# Altium footprint library Connector_USB.PcbLib: 17 footprints (part 1 of 2)
Each footprint in its own frame and in the unit in brackets; x right, y up, seen from the top. Pads: shape width x height; smd on the part's side, far side on the other; paste and mask are expansions set on the pad; w line width, h text height; cw(c..) or ccw(c..) is an arc to the next point about the centre after c.
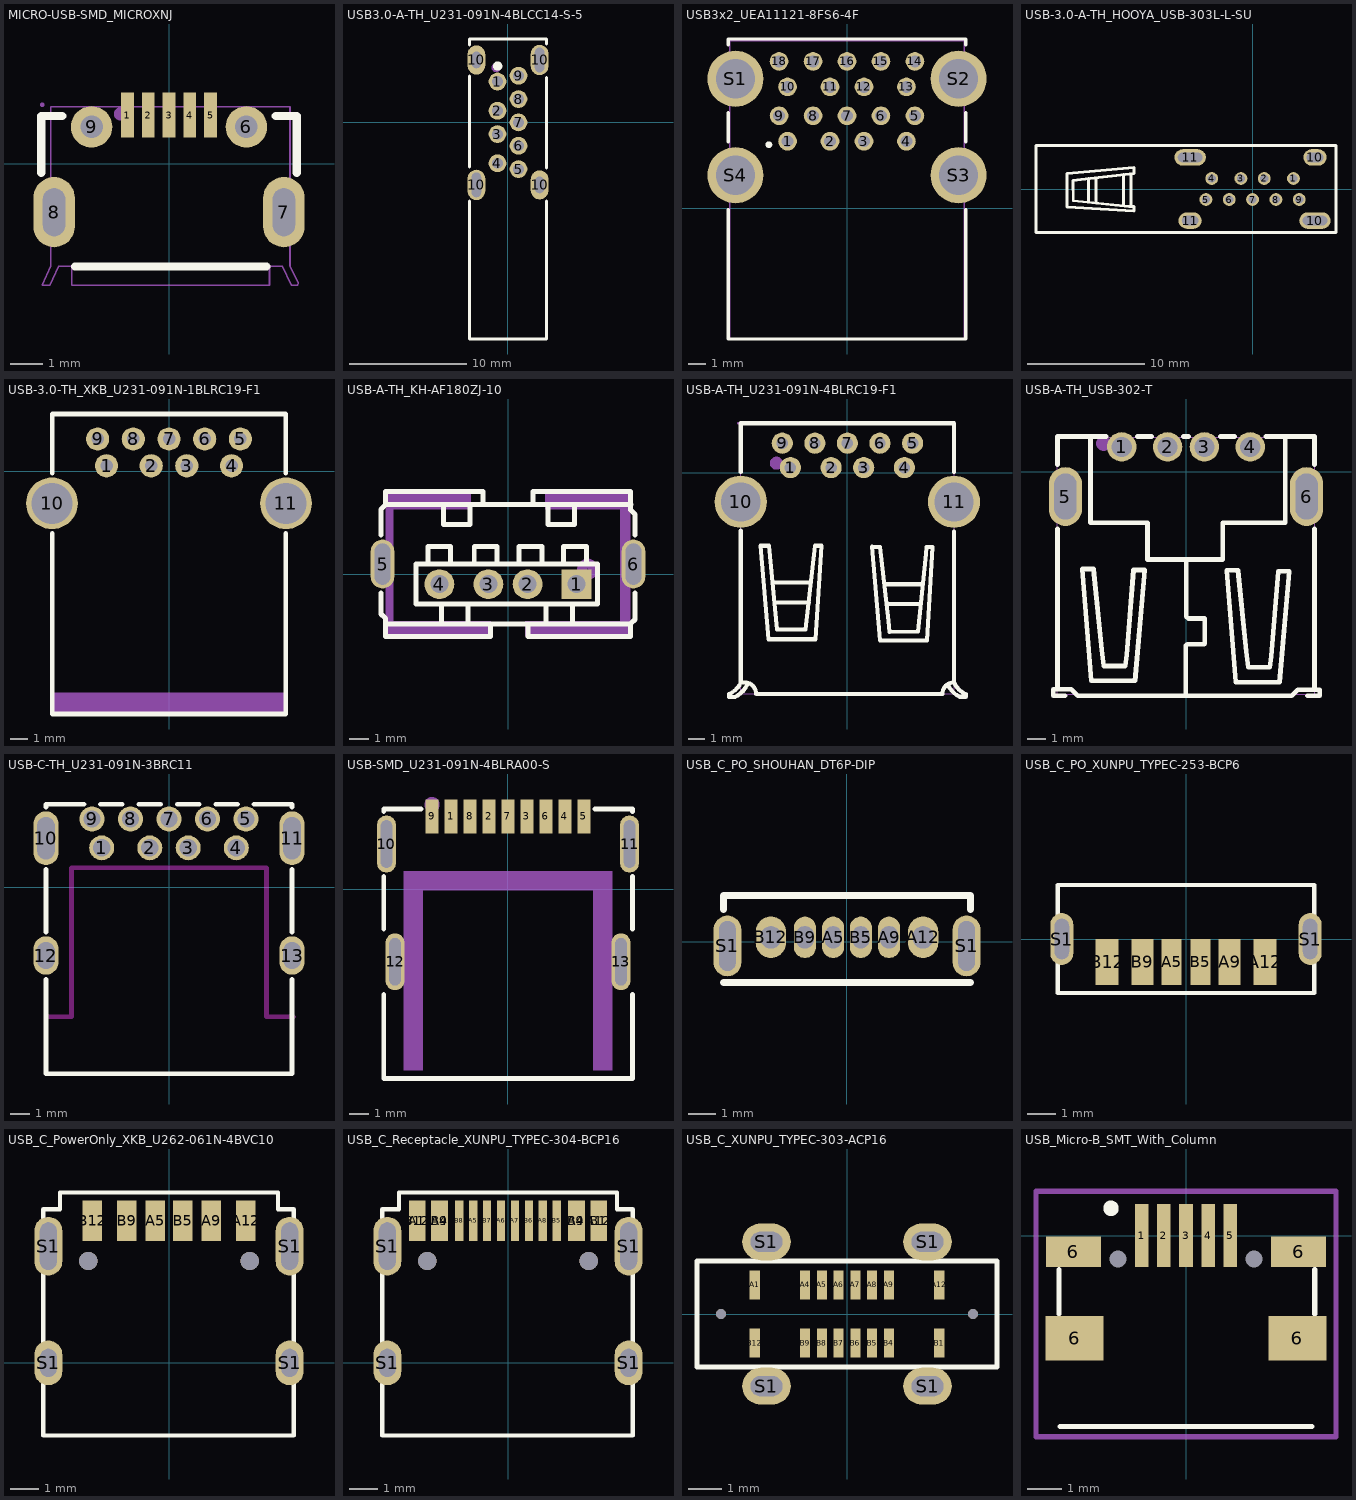
[diagram p0: the footprints below, top view; thin cyan lines are the x and y axes]

## MICRO-USB-SMD_MICROXNJ [mil]
pads (9):
  rect 15.7x55.1 smd mask+2: 1(-51.2,59.9) 2(-25.6,59.9) 3(0,59.9) 4(25.6,59.9) 5(51.2,59.9)
  round 51.2 hole 27.6 mask+2: 6(95.5,45.2) 9(-95.5,45.2)
  oval 51.2x86.6 hole 27.6 slot 59.1 at 90 deg mask+2: 7(141.7,-59.9) 8(-141.7,-59.9)
Top Overlay:
  lines w10: -157.5,-11.3 -157.5,58.7 -131.7,58.7 ; -116.14,-126.97 120.08,-126.97 ; 131.7,58.7 157.5,58.7 157.5,-11.3
Top Paste:
  circle w25.6: c-95.5,45.2 r12.8
  circle w25.6: c95.5,45.2 r12.8
  region: 116.1,-42.2 116.1,-38.83 117.84,-32.32 121.21,-26.48 125.98,-21.71 131.82,-18.34 138.33,-16.6 145.07,-16.6 151.58,-18.34 157.42,-21.71 162.19,-26.48 165.56,-32.32 167.3,-38.83 167.3,-42.2 167.3,-77.6 167.3,-80.97 165.56,-87.48 162.19,-93.32 157.42,-98.09 151.58,-101.46 145.07,-103.2 138.33,-103.2 131.82,-101.46 125.98,-98.09 121.21,-93.32 117.84,-87.48 116.1,-80.97 116.1,-77.6
  region: -167.3,-42.2 -167.3,-38.83 -165.56,-32.32 -162.19,-26.48 -157.42,-21.71 -151.58,-18.34 -145.07,-16.6 -138.33,-16.6 -131.82,-18.34 -125.98,-21.71 -121.22,-26.48 -117.84,-32.32 -116.1,-38.83 -116.1,-42.2 -116.1,-77.6 -116.1,-80.97 -117.84,-87.48 -121.22,-93.32 -125.98,-98.09 -131.82,-101.46 -138.33,-103.2 -145.07,-103.2 -151.58,-101.46 -157.42,-98.09 -162.19,-93.32 -165.56,-87.48 -167.3,-80.97 -167.3,-77.6
  region: 59.1,87.5 43.3,87.5 43.3,40.2 43.3,32.3 59.1,32.3 59.1,41.7
  region: 33.5,87.5 17.7,87.5 17.7,40.2 17.7,32.3 33.5,32.3 33.5,41.7
  region: 7.9,87.5 -7.9,87.5 -7.9,40.2 -7.9,32.3 7.9,32.3 7.9,41.7
  region: -17.7,87.5 -33.5,87.5 -33.5,40.2 -33.5,32.3 -17.7,32.3 -17.7,41.7
  region: -43.3,87.5 -59.1,87.5 -59.1,40.2 -59.1,32.3 -43.3,32.3 -43.3,41.7
Mechanical 6:
  circle w7.9: c-60.2,61.2 r3.9
Mechanical 15:
  region: -153.9,72.5 -153.9,73.49 -155.31,74.9 -157.29,74.9 -158.7,73.49 -158.7,72.5 -158.7,71.51 -157.29,70.1 -155.31,70.1 -153.9,71.51 -153.9,72.5
  region: -147.6,-42 -135.8,-42 -135.8,-77.8 -147.6,-77.8
  region: 135.8,-42 147.6,-42 147.6,-77.8 135.8,-77.8
  region: -105.3,41.3 -105.3,49.2 -85.6,49.2 -85.6,41.3
  region: 85.6,41.3 85.6,49.2 105.3,49.2 105.3,41.3
  region: -56.1,33.1 -56.1,72.5 -46.3,72.5 -46.3,33.1
  region: -30.5,33.1 -30.5,72.5 -20.7,72.5 -20.7,33.1
  region: -4.9,33.1 -4.9,72.5 4.9,72.5 4.9,33.1
  region: 20.7,33.1 20.7,72.5 30.5,72.5 30.5,33.1
  region: 46.3,33.1 46.3,72.5 56.1,72.5 56.1,33.1
  lines w2: -156.3,-149.9 -147.2,-150.2 -135.8,-126.6 -120.1,-126.6 -120.1,-149.9 -119.3,-149.9 124,-150.2 124,-126.6 139.4,-126.6 150.8,-149.9 158.7,-149.9 159.4,-147.5 149.2,-125.8 149.2,70.2 -145.7,70.2 -145.7,69.8 -145.7,-126.2 -156.3,-149.9
3D body "3D_PCB1_2022-04-16.step": height 108.29, standoff -39.39, extent -155.73,-150.14 159.33,70.34

## USB3.0-A-TH_U231-091N-4BLCC14-S-5 [mil]
pads (13):
  round 60 hole 36: 1(-35.43,137.79) 2(-35.43,39.37) 3(-35.43,-39.37) 4(-35.43,-137.79) 5(35.44,-157.48) 6(35.44,-78.74) 7(35.44,0) 8(35.44,78.74) 9(35.44,157.48)
  oval 60x102.36 hole 31.5 slot 82.68 at 90 deg: 10(-106.69,-210.63) 10(106.7,210.63)
  oval 60x98.42 hole 31.5 slot 55.12 at 90 deg: 10(-106.69,210.63) 10(106.7,-210.63)
Top Overlay:
  circle w15.75: c-34.99,190 r7.87
  lines w10: -130,-150 -130,156.04 ; -129.91,-265.54 -129.91,-729.96 129.87,-729.96 130.21,-730.31 130.21,-265.51 129.93,-265.23 ; -129.91,261.77 -129.91,281.22 -129.81,281.33 129.93,281.33 129.93,264.79 ; 129.93,-154.4 129.93,151.65
Mechanical 15:
  circle w15.75: c-39.99,185 r7.87
3D body "USB1.stp": height 545.28, standoff -137.8, extent -128.35,-733.35 128.35,284.37

## USB3x2_UEA11121-8FS6-4F [mm]
pads (22):
  round 1.1 hole 0.7: 1(-3.5,3.93) 2(-1,3.93) 3(1,3.93) 4(3.5,3.93) 5(4,5.43) 6(2,5.43) 7(0,5.43) 8(-2,5.43) 9(-4,5.43) 10(-3.5,7.13) 11(-1,7.13) 12(1,7.13) 13(3.5,7.13) 14(4,8.63) 15(2,8.63) 16(0,8.63) 17(-2,8.63) 18(-4,8.63)
  round 3.3 hole 2.3: S1(-6.57,7.61) S2(6.57,7.61) S3(6.57,1.93) S4(-6.57,1.93)
Top Overlay:
  circle w0.2: c-4.6,3.73 r0.1
  lines w0.2: -7,-0.1 -7,-7.71 7,-7.71 7,-0.1 ; -7,3.9 -7,5.6 ; -7,9.6 -7,9.95 7,9.95 7,9.6 ; 7,3.9 7,5.6
Mechanical 13:
  lines w0.1: -6.9,-7.71 6.9,-7.71 6.9,9.85 -6.9,9.85 -6.9,-7.71
3D body: height 1.29, standoff -14.39, extent -8.255,10.795 -8.255,10.795
3D body "8129645.stp": height 16.2, standoff -3.2, extent -7.81,-7.529 7.86,9.931

## USB-3.0-A-TH_HOOYA_USB-303L-L-SU [mm]
pads (13):
  round 1.1 hole 0.7: 1(3.5,0.9) 2(1,0.9) 3(-1,0.9) 4(-3.5,0.9) 5(-4,-0.9) 6(-2,-0.9) 7(0,-0.9) 8(2,-0.9) 9(4,-0.9)
  oval 2x1.4 hole 0.8 slot 1.4 at 0 deg: 10(5.35,2.71) 11(-5.35,-2.71)
  oval 2.7x1.4 hole 0.8 slot 2.1 at 0 deg: 10(5.35,-2.71) 11(-5.35,2.71)
Top Overlay:
  lines w0.254: -18.558,3.725 7.15,3.725 7.15,-3.725 -18.55,-3.725 -18.55,3.726 ; -14.042,-1.134 -14.042,0.891 ; -13.413,-1.203 -13.413,0.961 ; -11.047,-1.429 -11.047,1.227 ; -10.435,-1.482 -10.435,1.296 ; -15.901,-1.542 -10.158,-1.892 -10.158,-1.512 -10.588,-1.482 -15.367,-1.008 -15.377,0.742 -14.699,0.817 -10.159,1.327 -10.155,1.836 -15.89,1.341 -15.901,-1.542

## USB-3.0-TH_XKB_U231-091N-1BLRC19-F1 [mm]
pads (11):
  round 1.3 hole 0.7: 1(-3.5,0.3) 2(-1,0.3) 3(1,0.3) 4(3.5,0.3) 5(4,1.8) 6(2,1.8) 7(0,1.8) 8(-2,1.8) 9(-4,1.8)
  round 2.9 hole 2.3: 10(-6.55,-1.8) 11(6.55,-1.8)
Top Overlay:
  lines w0.254: -6.55,-3.481 -6.55,-13.6 6.55,-13.6 6.55,-3.481 ; -6.55,-0.119 -6.55,3.2 6.55,3.2 6.55,-0.119
Mechanical 15:
  region: -6.6,-12.4 6.6,-12.4 6.6,-13.6 -6.6,-13.6

## USB-A-TH_KH-AF180ZJ-10 [mil]
pads (6):
  rect 60x60 hole 36: 1(137.79,-20.27)
  round 60 hole 36: 2(39.37,-20.27) 3(-39.37,-20.27) 4(-137.79,-20.27)
  oval 47.24x98.42 hole 31.5 slot 82.68 at 90 deg: 5(-252.01,20.23) 6(252.01,20.23)
Top Overlay:
  lines w10: -255,-37.9 -255,-80 -246.11,-88.89 -246.11,-100 ; -255,78.45 -255,120 -255,130 -245,140 ; -160.79,20.28 -160.79,55.28 -115,55.28 -115,20.28 ; -133.69,-59.72 -133.69,-99.72 -80,-99.72 -80,-59.72 ; -130,140 -130,100 -76.31,100 -76.31,140 ; -67.79,20.28 -67.79,55.28 -22,55.28 -22,20.28 ; 22.21,20.28 22.21,55.28 68,55.28 68,20.28 ; 40,-110 40,-125.78 246.06,-125.78 246.06,-99.95 ; 39.99,-109.95 39.99,-99.95 ; 49.99,165.04 49.99,140.04 -50.01,140.04 -50.01,166.34 -246.11,166.34 -246.11,141.11 -245,140 ; 50,166.34 246.06,166.34 246.06,140 246.06,128.94 255,120 255,78.45 ; 76.31,-59.72 76.31,-99.72 130,-99.72 130,-59.72 ; 80,140 80,100 133.69,100 133.69,140 ; 111.71,20.28 111.71,55.28 157.5,55.28 157.5,20.28 ; 247.13,140 -245,140 ; 255,-37.9 255,-85 255,-91.02 246.06,-99.95 ; -246.11,-100 -246.11,-124.95 -35.01,-124.95 -35.01,-99.95 ; -246.11,-100 -246.06,-99.95 -35.01,-99.95 ; -35.01,-99.95 39.99,-99.95 ; 39.99,-99.95 246.06,-99.95 ; -185,-59.72 180,-59.72 180,20.28 -185,20.28 -185,-59.72
Mechanical 15:
  circle w19.68: c160,9.85 r11.18
  region: -75,130 -75,165 -245,165 -245,130
  region: 75,130 75,165 245,165 245,130
  region: -245,-125 -245,-95 -35,-95 -35,-125
  region: 35,-125 35,-95 245,-95 245,-125
  region: 245,-95 245,130 225,130 225,-95
  region: -245,130 -245,-95 -230,-95 -230,130
3D body "USB1.stp": height 393.82, standoff -118.13, extent -257.88,-126.38 257.88,165.75

## USB-A-TH_U231-091N-4BLRC19-F1 [mil]
pads (11):
  round 51.2 hole 27.6 mask+2: 1(-137.8,11.8) 2(-39.4,11.8) 3(39.4,11.8) 4(137.8,11.8) 5(157.5,70.9) 6(78.7,70.9) 7(0,70.9) 8(-78.7,70.9) 9(-157.5,70.9)
  round 126 hole 94.5 mask+2: 10(-257.9,-70.9) 11(257.9,-70.9)
Top Overlay:
  lines w10: -271.7,-542.8 -286,-542.8 -286,-535.9 ccw(c-308.43,-485.33) -257.87,-507.77 ; -271.65,-542.82 ccw(c-299.19,-486.69) -242.86,-513.81 ; -257.9,-507.8 -257.9,-140.7 ; -257.9,-507.5 -248.7,-507.5 cw(c-248.69,-535.6) -220.58,-535.6 229.7,-535.6 cw(c257.8,-535.6) 257.8,-507.49 257.8,-143 ; -257.9,1.2 -257.9,119.1 257.9,119.1 257.9,1.2 ; -257.87,-79.69 cw(c-251.97,-79.69) -251.97,-73.79 ; -179.1,-266.3 -90.1,-266.3 ; -173.6,-314 -93.6,-314 ; 91.8,-270.2 180.8,-270.2 ; 97.4,-317.9 177.3,-317.9 ; 242.86,-513.29 ccw(c299.19,-486.16) 271.65,-542.29 ; 257.87,-507.25 ccw(c304.11,-489.12) 285.98,-535.36 ; 271.7,-542.3 286,-542.3 286,-535.4 ; -210,-177.2 -191,-403.2 -77,-403.2 -63,-177.2 -78,-177.2 -101.2,-379.3 -170.1,-379.3 -190,-177.2 -210,-177.2 ; 59.1,-179.7 78.6,-405.5 192.1,-406 205.9,-179.9 190.9,-179.9 189.7,-196.8 171.1,-384.9 102.2,-385.3 99.2,-358.6 79.1,-179.9 59.1,-179.7
Mechanical 6:
  circle w15.7: c-171.6,22.5 r7.9
Mechanical 15:
  region: -261.4,118.8 -261.4,119.79 -262.81,121.2 -264.79,121.2 -266.2,119.79 -266.2,118.8 -266.2,117.81 -264.79,116.4 -262.81,116.4 -261.4,117.81 -261.4,118.8
  region: -165.3,66.9 -165.3,74.8 -149.6,74.8 -149.6,66.9
  region: -86.6,66.9 -86.6,74.8 -70.9,74.8 -70.9,66.9
  region: -7.9,66.9 -7.9,74.8 7.9,74.8 7.9,66.9
  region: 70.9,66.9 70.9,74.8 86.6,74.8 86.6,66.9
  region: 149.6,66.9 149.6,74.8 165.4,74.8 165.4,66.9
  region: 129.9,7.9 129.9,15.8 145.7,15.8 145.7,7.9
  region: 31.5,7.9 31.5,15.8 47.2,15.8 47.2,7.9
  region: -47.2,7.9 -47.2,15.8 -31.5,15.8 -31.5,7.9
  region: -145.7,7.9 -145.7,15.8 -129.9,15.8 -129.9,7.9
  region: -263.8,-37.4 -252,-37.4 -252,-104.3 -263.8,-104.3
  region: 252,-37.4 263.8,-37.4 263.8,-104.3 252,-104.3
  lines w2: -257.9,-534.8 -257.9,118.8 257.9,118.8 257.9,-534.8 -257.9,-534.8
3D body "3D_PCB1_2022-04-16.stp": height 282.55, standoff -118.11, extent -311.16,-533.91 311.16,127.51

## USB-A-TH_USB-302-T [mil]
pads (6):
  round 63 hole 43.3 mask+2: 1(-137.8,53.3) 2(-39.4,53.3) 3(39.4,53.3) 4(137.8,53.3)
  oval 70.9x126 hole 47.2 slot 98.4 at 90 deg mask+2: 5(-258.7,-53.3) 6(258.7,-53.3)
Top Overlay:
  lines w10: -284.5,-480.7 -259.5,-480.7 ; -284.4,-480.7 -284.5,-466.7 -246.5,-466.7 -232.5,-480.7 226.5,-480.7 239.5,-467.7 286.5,-467.7 286.5,-480.7 260.5,-480.7 ; -275.6,-459.8 -275.6,-122.1 ; -275.6,15.4 -275.6,75.6 -171.7,75.6 ; -204.7,75.6 -204.7,-109.4 -82.7,-109.4 -82.7,-188.2 78.7,-188.2 78.7,-109.4 212.6,-109.4 212.6,75.6 ; -103.9,75.6 -73.3,75.6 ; -5.4,75.6 5.4,75.6 ; -0.5,-480.7 -0.5,-372.7 2.5,-369.7 39.5,-369.7 40.5,-368.7 40.5,-314.7 4.5,-314.7 0.5,-310.7 0.5,-205.7 ; 0.5,-212.9 0.5,-188.2 ; 73.3,75.6 103.9,75.6 ; 171.7,75.6 275.6,75.6 275.6,15.4 ; 275.6,-467.7 275.6,-122.1 ; -222.5,-208.7 -203.5,-448.7 -109.5,-448.7 -88.5,-210.7 -112.5,-210.7 -127.2,-393.3 -130.1,-416.7 -176.5,-416.7 -180.5,-382.7 -198.5,-208.7 -222.5,-208.7 ; 87.5,-211.7 106.5,-451.7 200.5,-451.7 221.5,-213.7 197.5,-213.7 182.8,-396.3 179.9,-419.7 133.5,-419.7 129.5,-385.7 111.5,-211.7 87.5,-211.7
Mechanical 6:
  circle w15.7: c-177,60.5 r7.9
Mechanical 15:
  region: -274.7,74 -274.7,74.99 -276.11,76.4 -278.09,76.4 -279.5,74.99 -279.5,74 -279.5,73.01 -278.09,71.6 -276.11,71.6 -274.7,73.01 -274.7,74
  region: -151.6,49.4 -151.6,57.3 -124,57.3 -124,49.4
  region: -53.1,49.4 -53.1,57.3 -25.6,57.3 -25.6,49.4
  region: 25.6,49.4 25.6,57.3 53.2,57.3 53.2,49.4
  region: 124,49.4 124,57.3 151.6,57.3 151.6,49.4
  region: -250.8,-27.8 -250.8,-78.9 -266.5,-78.9 -266.5,-27.8
  region: 250.8,-78.9 250.8,-27.8 266.5,-27.8 266.5,-78.9
  lines w2: -275.6,-477.1 275.6,-477.1 275.6,74 -275.6,74 -275.6,-477.1
3D body "3D_PCB1_2022-04-15.stp": height 267.91, standoff -169.3, extent -288.56,-489.5 289.56,73.69

## USB-C-TH_U231-091N-3BRC11 [mm]
pads (13):
  round 1.3 hole 0.9: 1(-3.5,2.05) 2(-1,2.05) 3(1,2.05) 4(3.5,2.05) 5(4,3.55) 6(2,3.55) 7(0,3.55) 8(-2,3.55) 9(-4,3.55)
  oval 1.3x2.8 hole 0.9 slot 2.2 at 90 deg: 10(-6.4,2.55) 11(6.4,2.55)
  oval 1.3x2 hole 0.9 slot 1.4 at 90 deg: 12(-6.4,-3.55) 13(6.4,-3.55)
Top Overlay:
  lines w0.254: -6.4,-4.781 -6.4,-9.7 6.4,-9.7 ; -6.4,-2.319 -6.4,0.919 ; -6.4,4.181 -6.4,4.318 -4.429,4.318 ; -3.571,4.318 -2.429,4.318 ; -1.571,4.318 -0.429,4.318 ; 0.429,4.318 1.571,4.318 ; 2.429,4.318 3.571,4.318 ; 4.429,4.318 6.35,4.318 ; 6.4,-9.642 6.4,-4.781 ; 6.4,-2.319 6.4,0.919 ; 6.4,4.181 6.4,4.318
Keep-Out Layer:
  lines w0.254: -6.35,-6.731 -5.08,-6.731 -5.08,1.016 5.08,1.016 5.08,-6.731 6.477,-6.731
3D body "u231-091n-3brc11.stp": height 5.91, standoff -1.55, extent -6.55,-9.75 6.55,3.95

## USB-SMD_U231-091N-4BLRA00-S [mm]
pads (13):
  rect 0.7x1.8 smd: 1(-3,3.825) 2(-1,3.825) 3(1,3.825) 4(3,3.825) 5(4,3.825) 6(2,3.825) 7(0,3.825) 8(-2,3.825) 9(-4,3.825)
  oval 1x3 hole 0.6 slot 2.5 at 90 deg: 10(-6.4,2.375) 11(6.4,2.375) 12(-5.95,-3.825) 13(5.95,-3.825)
Top Overlay:
  lines w0.254: -6.54,-5.543 -6.54,-9.97 6.55,-9.98 6.55,-5.541 ; -6.54,-2.107 -6.54,0.657 ; -6.54,4.093 -6.54,4.22 -4.581,4.22 ; 4.581,4.22 6.55,4.22 6.55,4.091 ; 6.55,-2.11 6.55,0.659
Top Paste:
  region: -4.35,4.725 -3.65,4.725 -3.65,2.925 -4.35,2.925
  region: -2.35,4.725 -1.65,4.725 -1.65,2.925 -2.35,2.925
  region: -0.35,4.725 0.35,4.725 0.35,2.925 -0.35,2.925
  region: 1.65,4.725 2.35,4.725 2.35,2.925 1.65,2.925
  region: 3.65,4.725 4.35,4.725 4.35,2.925 3.65,2.925
  region: 2.65,4.725 3.35,4.725 3.35,2.925 2.65,2.925
  region: 0.65,4.725 1.35,4.725 1.35,2.925 0.65,2.925
  region: -1.35,4.725 -0.65,4.725 -0.65,2.925 -1.35,2.925
  region: -3.35,4.725 -2.65,4.725 -2.65,2.925 -3.35,2.925
  region: -6.45,-2.825 -6.449,-2.726 -6.372,-2.544 -6.232,-2.405 -6.049,-2.33 -5.851,-2.33 -5.668,-2.405 -5.528,-2.544 -5.451,-2.726 -5.45,-2.825 -5.45,-4.825 -5.451,-4.924 -5.528,-5.106 -5.668,-5.245 -5.851,-5.32 -6.049,-5.32 -6.232,-5.245 -6.372,-5.106 -6.449,-4.924 -6.45,-4.825
  region: 5.45,-2.825 5.451,-2.726 5.528,-2.544 5.668,-2.405 5.851,-2.33 6.049,-2.33 6.232,-2.405 6.372,-2.544 6.449,-2.726 6.45,-2.825 6.45,-4.825 6.449,-4.924 6.372,-5.106 6.232,-5.245 6.049,-5.32 5.851,-5.32 5.668,-5.245 5.528,-5.106 5.451,-4.924 5.45,-4.825
  region: -6.9,3.375 -6.899,3.474 -6.822,3.656 -6.682,3.796 -6.499,3.871 -6.301,3.871 -6.118,3.796 -5.977,3.656 -5.901,3.474 -5.9,3.375 -5.9,1.375 -5.901,1.276 -5.977,1.093 -6.118,0.954 -6.301,0.878 -6.499,0.878 -6.682,0.954 -6.822,1.093 -6.899,1.276 -6.9,1.375
  region: 5.9,3.375 5.9,3.474 5.976,3.658 6.117,3.799 6.301,3.875 6.5,3.875 6.683,3.799 6.824,3.658 6.9,3.474 6.9,3.375 6.9,1.375 6.9,1.275 6.824,1.091 6.683,0.951 6.5,0.875 6.301,0.875 6.117,0.951 5.976,1.091 5.9,1.275 5.9,1.375
Mechanical 15:
  circle w0.4: c-4,4.45 r0.2
  region: -5.5,-9.55 -5.5,0.95 -4.5,0.95 -4.5,-9.55
  region: 5.5,-9.55 5.5,0.95 4.5,0.95 4.5,-9.55
  region: -4.5,0.95 4.5,0.95 4.5,-0.05 -4.5,-0.05
3D body "u231-091n-4blra00-s.stp": height 7.7, standoff -1.64, extent -7.25,-10.395 7.25,3.825

## USB_C_PO_SHOUHAN_DT6P-DIP [mm]
pads (8):
  oval 0.8x1.498 hole 0.6 slot 0.8 at 90 deg: A5(-0.5,0.155) B5(0.5,0.155)
  oval 0.8x1.498 hole 0.65 slot 0.8 at 90 deg: A9(1.52,0.155) B9(-1.52,0.155)
  oval 1.1x1.499 hole 0.75 slot 0.8 at 90 deg: A12(2.75,0.155) B12(-2.75,0.155)
  oval 1x2.199 hole 0.6 slot 1.8 at 90 deg: S1(-4.32,-0.155) S1(4.32,-0.155)
Top Overlay:
  lines w0.254: -4.47,1.161 -4.47,1.675 4.47,1.675 4.47,1.161 ; 4.47,-1.471 4.47,-1.485 -4.47,-1.485 ; -4.47,-1.485 -4.47,-1.471 -4.47,-1.485

## USB_C_PO_XUNPU_TYPEC-253-BCP6 [mm]
pads (8):
  rect 0.7x1.6 smd: A5(-0.5,-0.8) B5(0.5,-0.8)
  rect 0.76x1.6 smd: A9(1.52,-0.8) B9(-1.52,-0.8)
  rect 0.8x1.6 smd: A12(2.75,-0.8) B12(-2.75,-0.8)
  oval 0.8x1.8 hole 0.5 slot 1.4 at 90 deg: S1(-4.323,0) S1(4.323,0)
Top Overlay:
  lines w0.152: -4.47,-1.88 -4.47,1.88 4.47,1.88 4.47,-1.88 -4.47,-1.88

## USB_C_PowerOnly_XKB_U262-061N-4BVC10 [mm]
pads (10):
  rect 0.7x1.45 smd: A5(-0.5,5.095) A9(1.52,5.095) A12(2.75,5.095) B5(0.5,5.095) B9(-1.52,5.095) B12(-2.75,5.095)
  oval 1x1.6 hole 0.6 slot 1 at 90 deg: S1(-4.32,0) S1(4.32,0)
  oval 1x2.1 hole 0.6 slot 1.7 at 90 deg: S1(-4.32,4.18) S1(4.32,4.18)
via 2.89,3.65 diameter 0.65 hole 0.65
via -2.89,3.65 diameter 0.65 hole 0.65
Top Overlay:
  lines w0.152: -4.5,-2.6 -4.5,5.5 -3.9,5.5 -3.9,6.1 0,6.1 3.9,6.1 3.9,5.5 4.47,5.5 4.47,-2.6 -4.5,-2.6
3D body "User Library-USB Type C Port (SMD Type).STEP": height 3.3, standoff -0.9, extent -4.47,-2.6 4.47,5.3

## USB_C_Receptacle_XUNPU_TYPEC-304-BCP16 [mm]
pads (20):
  rect 0.6x1.45 smd: A1(-3.25,5.095) A4(-2.45,5.095) A9(2.45,5.095) A12(3.25,5.095) B1(3.25,5.095) B4(2.45,5.095) B9(-2.45,5.095) B12(-3.25,5.095)
  rect 0.3x1.45 smd: A5(-1.25,5.095) A6(-0.25,5.095) A7(0.25,5.095) A8(1.25,5.095) B5(1.75,5.095) B6(0.75,5.095) B7(-0.75,5.095) B8(-1.75,5.095)
  oval 1x1.6 hole 0.6 slot 1 at 90 deg: S1(-4.32,0) S1(4.32,0)
  oval 1x2.1 hole 0.6 slot 1.7 at 90 deg: S1(-4.32,4.18) S1(4.32,4.18)
via -2.89,3.65 diameter 0.65 hole 0.65
via 2.89,3.65 diameter 0.65 hole 0.65
Top Overlay:
  lines w0.152: -4.5,-2.6 4.47,-2.6 4.47,5.5 3.9,5.5 3.9,6.1 0,6.1 -3.9,6.1 -3.9,5.5 -4.5,5.5 -4.5,-2.6
3D body "User Library-USB Type C Port (SMD Type).STEP": height 3.3, standoff -0.9, extent -4.47,-2.6 4.47,5.3

## USB_C_XUNPU_TYPEC-303-ACP16 [mm]
pads (20):
  rect 0.3x0.87 smd: A1(-2.75,0.865) A4(-1.25,0.865) A5(-0.75,0.865) A6(-0.25,0.865) A7(0.25,0.865) A8(0.75,0.865) A9(1.25,0.865) A12(2.75,0.865) B1(2.75,-0.865) B4(1.25,-0.865) B5(0.75,-0.865) B6(0.25,-0.865) B7(-0.25,-0.865) B8(-0.75,-0.865) B9(-1.25,-0.865) B12(-2.75,-0.865)
  oval 1.45x1.1 hole 0.6 slot 0.95 at 0 deg: S1(-2.4,-2.15) S1(-2.4,2.15) S1(2.4,-2.15) S1(2.4,2.15)
via 3.75,0 diameter 0.3 hole 0.3
via -3.75,0 diameter 0.3 hole 0.3
Top Overlay:
  lines w0.152: -4.47,-1.58 4.47,-1.58 4.47,1.58 -4.47,1.58 -4.47,-1.58

## USB_Micro-B_SMT_With_Column [mm]
pads (11):
  rect 0.4x1.85 smd: 1(-1.3,0) 2(-0.65,0) 3(0,0) 4(0.65,0) 5(1.3,0)
  rect 1.6x0.9 smd: 6(-3.3,-0.475) 6(3.3,-0.475)
  rect 1.69x1.3 smd: 6(-3.27,-3.013) 6(3.27,-3.013)
  round 0 hole 0.5: ""(-2,-0.685) ""(2,-0.685)
Top Overlay:
  circle w0.254: c-2.2,0.8 r0.1
  lines w0.152: -3.721,-2.3 -3.721,-1 ; -3.7,-5.6 3.7,-5.6 ; 3.779,-2.3 3.779,-1
Mechanical 15:
  lines w0.152: -4.4,-5.9 4.4,-5.9 4.4,1.3 -4.4,1.3 -4.4,-5.9
3D body "473460001.stp": height 2.77, standoff -0.17, extent -3.961,-5.58 4.019,-0.15